# Altium integrated library RC0805JR-073K3L.IntLib: 1 symbol
Pins are listed as number, name and electrical type; pins without a type are passive.

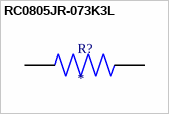
[diagram p0: symbol RC0805JR-073K3L]

## RC0805JR-073K3L
designator R?
RC Series 0805 0.125 W 3.3 kOhms 5% Â±100 ppm/Â°C SMT Thick Film Chip Resistor; MP: RC0805JR-073K3L; Package: None; Price: None; Value: *; Availability: Unavailable
footprint RESC2012X60N
pins: 1, 2